# Altium schematic symbol library Schlib1.SchLib: 2 symbols
Pins are listed as number, name and electrical type; pins without a type are passive.

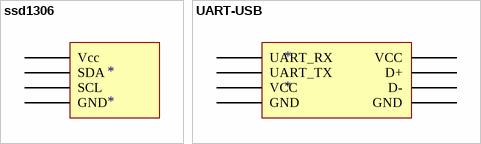
[diagram p0: symbols ssd1306 to UART-USB]

## ssd1306
designator *
pins: 9 Vcc, 10 SDA, 11 SCL, 12 GND

## UART-USB
designator *
pins: 27 UART_RX, 28 UART_TX, 29 VCC, 30 GND, 31 VCC, 32 D+, 33 D-, 34 GND